# EAGLE library part 74AC11648 (library 74ac-logic)
Octal BUS TRANSCEIVER/REGISTER
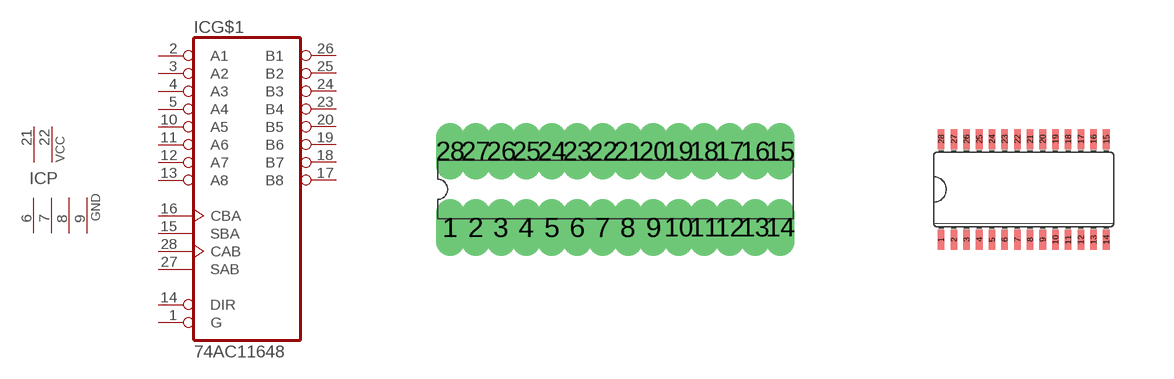
[diagram p51: symbol with the pads of DIL28-3; footprints DIL28-3, SO28W]

Designator prefix IC; gates G$1=7411648 P=2PWR4GND

## 74AC11648  [DIL28-3]
1  G$1:G  in
2  G$1:A1
3  G$1:A2
4  G$1:A3
5  G$1:A4
6  P:GND  pwr
7  P:GND  pwr
8  P:GND  pwr
9  P:GND  pwr
10  G$1:A5
11  G$1:A6
12  G$1:A7
13  G$1:A8
14  G$1:DIR  in
15  G$1:SBA  in
16  G$1:CBA  in
17  G$1:B8
18  G$1:B7
19  G$1:B6
20  G$1:B5
21  P:VCC  pwr
22  P:VCC  pwr
23  G$1:B4
24  G$1:B3
25  G$1:B2
26  G$1:B1
27  G$1:SAB  in
28  G$1:CAB  in

## 74AC11648D  [SO28W]
Pads as for DIL28-3

## Footprint DIL28-3 (pad centres in mm)
Dual In Line Package Small
drill 0.203 long: 1 -4.128,-0.953; 2 -3.493,-0.953; 3 -2.857,-0.953; 4 -2.223,-0.953; 5 -1.587,-0.953; 6 -0.953,-0.953; 7 -0.318,-0.953; 8 0.318,-0.953; 9 0.953,-0.953; 10 1.587,-0.953; 11 2.223,-0.953; 12 2.857,-0.953; 13 3.493,-0.953; 14 4.128,-0.953; 15 4.128,0.953; 16 3.493,0.953; 17 2.857,0.953; 18 2.223,0.953; 19 1.587,0.953; 20 0.953,0.953; 21 0.318,0.953; 22 -0.318,0.953; 23 -0.953,0.953; 24 -1.587,0.953; 25 -2.223,0.953; 26 -2.857,0.953; 27 -3.493,0.953; 28 -4.128,0.953

## Footprint SO28W (pad centres in mm)
Wide Small Outline package 300 mil
smd 0.165 x 0.508: 1 -2.064,-1.257; 2 -1.746,-1.257; 3 -1.429,-1.257; 4 -1.111,-1.257; 5 -0.794,-1.257; 6 -0.476,-1.257; 7 -0.159,-1.257; 8 0.159,-1.257; 9 0.476,-1.257; 10 0.794,-1.257; 11 1.111,-1.257; 12 1.429,-1.257; 13 1.746,-1.257; 14 2.064,-1.257; 15 2.064,1.257; 16 1.746,1.257; 17 1.429,1.257; 18 1.111,1.257; 19 0.794,1.257; 20 0.476,1.257; 21 0.159,1.257; 22 -0.159,1.257; 23 -0.476,1.257; 24 -0.794,1.257; 25 -1.111,1.257; 26 -1.429,1.257; 27 -1.746,1.257; 28 -2.064,1.257